# Altium schematic symbol library 691 216 710 0xx.SchLib: 2 symbols
Pins are listed as number, name and electrical type; pins without a type are passive.

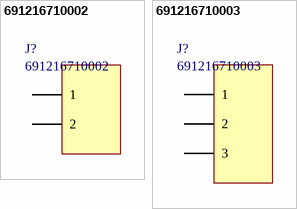
[diagram p0: symbols 691216710002 to 691216710003]

## 691216710002
designator J?
Horizontal Cable Entry with Rising Cage Clamp, Serie 2167 - 5.00 mm; Manufacturer: Wurth Elektronik; ComponentLink1 Description: Manufacturer; ComponentLink2 Description: Datasheet; NoPins: 2; ComponentLink1 URL: http://www.we-online.com; ComponentLink2 URL: http://katalog.we-online.de/em/datasheet/6912167100xx.pdf; Created By: Baojun Chen; Created Date: 6-Aug-15; PartNo: 691216710002
footprint 691216710002 (Serie 2167 - 5.00 mm _ 2 pins)
pins: 1, 2

## 691216710003
designator J?
Horizontal Cable Entry with Rising Cage Clamp, Serie 2167 - 5.00 mm; Manufacturer: Wurth Elektronik; ComponentLink1 Description: Manufacturer; ComponentLink2 Description: Datasheet; NoPins: 3; ComponentLink1 URL: http://www.we-online.com; ComponentLink2 URL: http://katalog.we-online.de/em/datasheet/6912167100xx.pdf; Created By: Baojun Chen; Created Date: 6-Aug-15; PartNo: 691216710003
footprint 691216710003 (Serie 2167 - 5.00 mm _ 3 pins)
pins: 1, 2, 3